# Altium footprint library Oscylatory.PcbLib: 2 footprints
Each footprint in its own frame and in the unit in brackets; x right, y up, seen from the top. Pads: shape width x height; smd on the part's side, far side on the other; paste and mask are expansions set on the pad; w line width, h text height; cw(c..) or ccw(c..) is an arc to the next point about the centre after c.
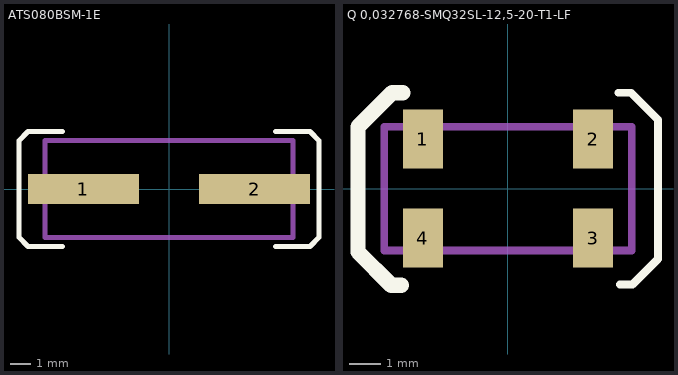
[diagram p0: the footprints below, top view; thin cyan lines are the x and y axes]

## ATS080BSM-1E [mm]
pads (2):
  rect 5.5x1.5 smd: 1(-4.25,0) 2(4.25,0)
Top Overlay:
  lines w0.254: -5.3,-2.85 -7,-2.85 -7.45,-2.4 -7.45,2.4 -7,2.85 -5.3,2.85 ; 5.3,-2.85 7,-2.85 7.45,-2.4 7.45,2.4 7,2.85 5.3,2.85
Mechanical 1:
  lines w0.254: -6.15,-2.415 6.15,-2.415 6.15,2.415 -6.15,2.415 -6.15,-2.415
3D body: height 0.28, standoff 0, extent -6.15,-2.415 6.15,2.415
3D body: height 4.3, standoff 0, extent -3.725,-1.9 3.9,1.9
3D body: height 4.3, standoff 0, extent -5.625,-1.89 -1.825,1.91
3D body: height 4.3, standoff 0, extent 1.825,-1.9 5.625,1.9

## Q 0,032768-SMQ32SL-12,5-20-T1-LF [mm]
pads (4):
  rect 1.3x1.9 smd: 1(-2.75,1.6) 2(2.75,1.6) 3(2.75,-1.6) 4(-2.75,-1.6)
Top Overlay:
  lines w0.254: 3.575,3.1 3.975,3.1 4.85,2.225 4.85,-2.275 4.025,-3.1 3.625,-3.1
  lines w0.5: -3.45,-3.125 -3.775,-3.125 -4.85,-2.05 -4.85,2 -3.75,3.1 -3.4,3.1
Mechanical 1:
  lines w0.254: -4,-2 4,-2 4,2 -4,2 -4,-2
3D body: height 2.4, standoff 0, extent -4,-2 4,2